# EAGLE library part UPA1523BH (library mita-akiba)
2chx2 P-ch Transistor Array NEC Corporation 330 yens @Sengoku Akiba
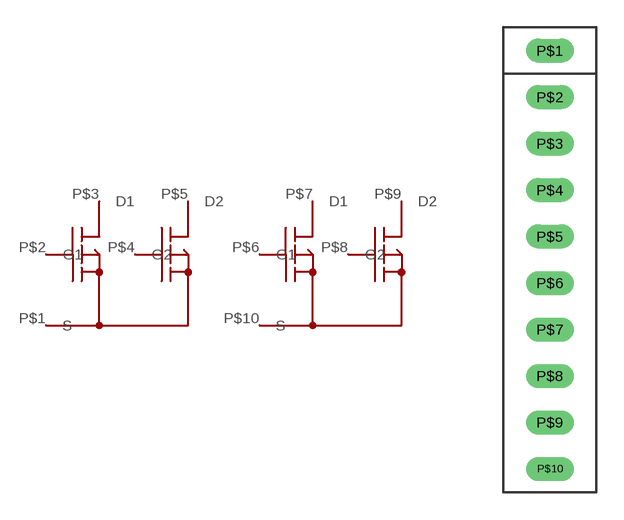
[diagram p57: symbol with the pads of SIL10P; footprint SIL10P]

Designator prefix -; gates G$1=PMOSX2 G$2=PMOSX2

## UPA1523BH  [SIL10P]
P$1  G$1:S
P$2  G$1:G1
P$3  G$1:D1
P$4  G$1:G2
P$5  G$1:D2
P$6  G$2:G1
P$7  G$2:D1
P$8  G$2:G2
P$9  G$2:D2
P$10  G$2:S

## Footprint SIL10P (pad centres in mm)
drill 0.8 long: P$1 0,10.16; P$2 0,7.62; P$3 0,5.08; P$4 0,2.54; P$5 0,0; P$6 0,-2.54; P$7 0,-5.08; P$8 0,-7.62; P$9 0,-10.16; P$10 0,-12.7